# Altium schematic symbol library MAX77857.SchLib: 1 symbol
Pins are listed as number, name and electrical type; pins without a type are passive.

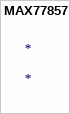
[diagram p0: symbol MAX77857]

## MAX77857
designator *